# Altium footprint library new-version.PcbLib: 241 footprints (part 5 of 16)
Each footprint in its own frame and in the unit in brackets; x right, y up, seen from the top. Pads: shape width x height; smd on the part's side, far side on the other; paste and mask are expansions set on the pad; w line width, h text height; cw(c..) or ccw(c..) is an arc to the next point about the centre after c.
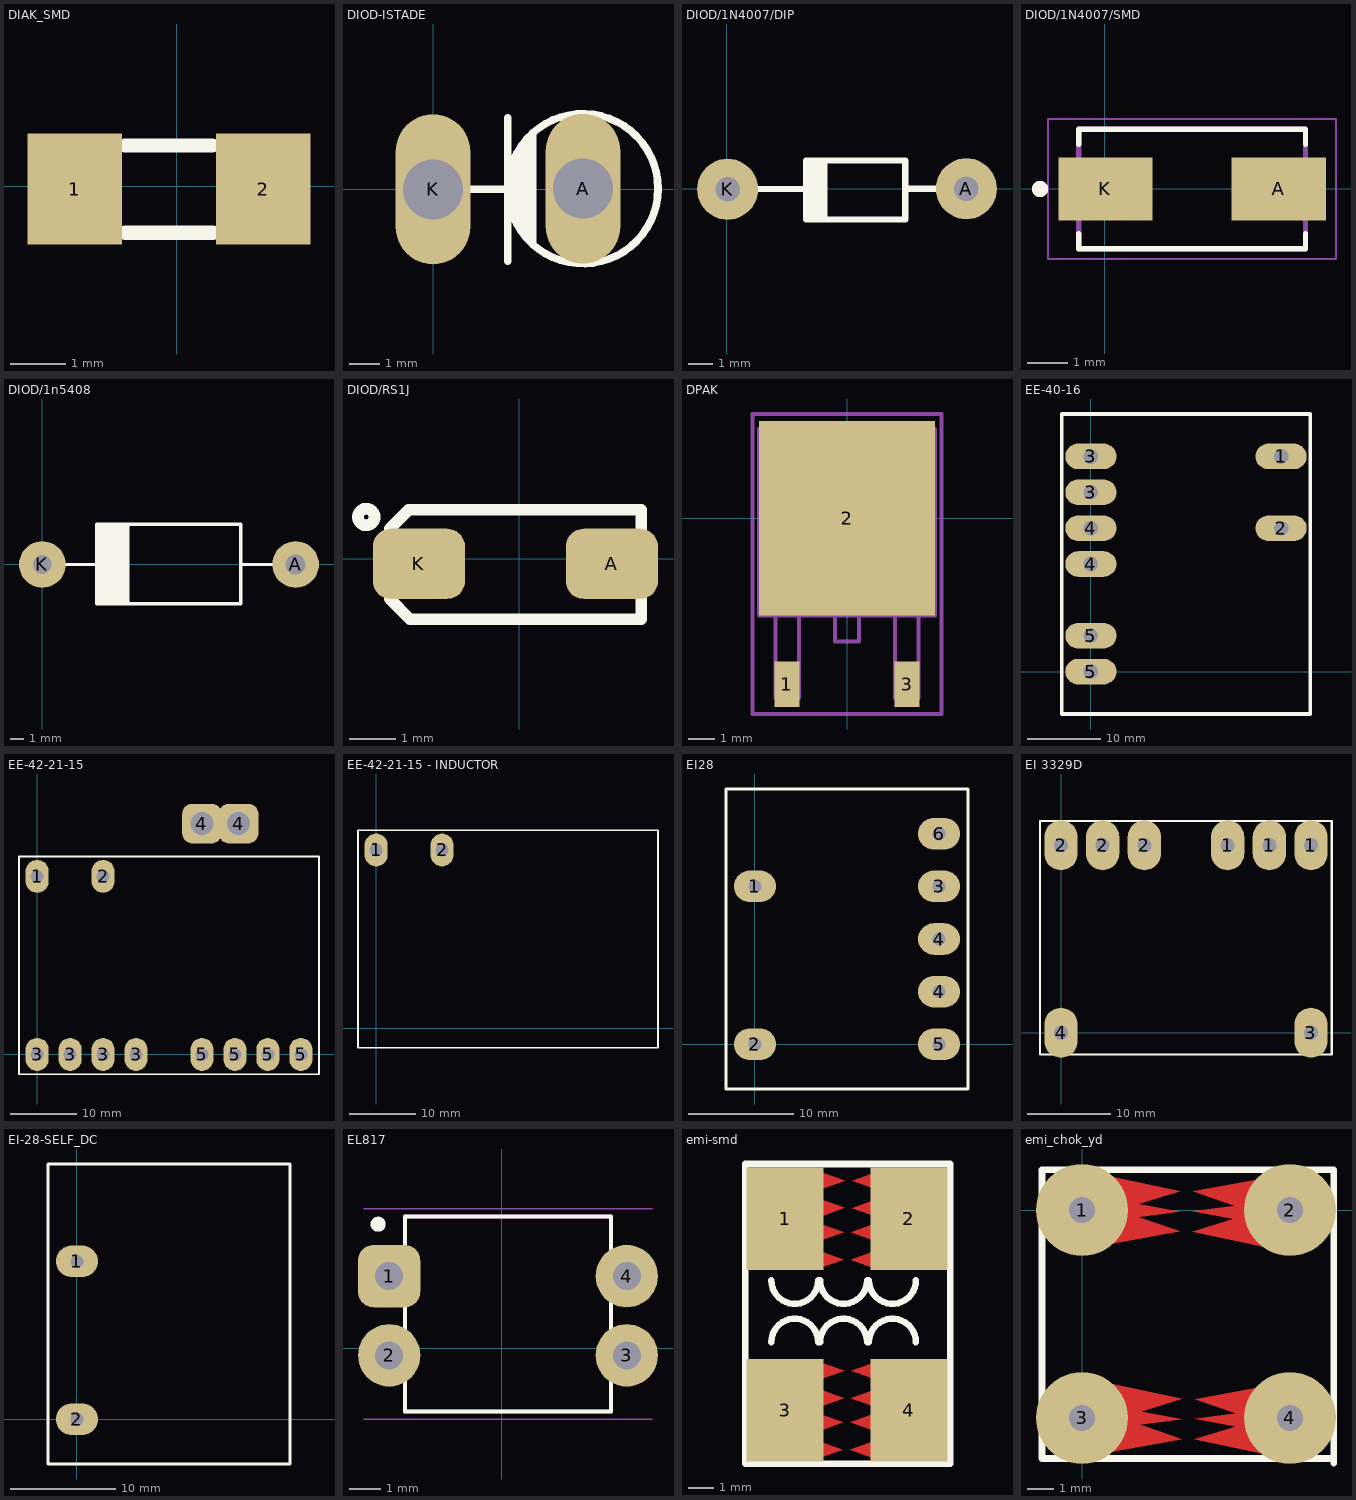
[diagram p4: the footprints below, top view; thin cyan lines are the x and y axes]

## DIAK_SMD [mm]
pads (2):
  rect 1.7x2 smd: 1(-1.843,-0.049) 2(1.557,-0.049)
Top Overlay:
  lines w0.254: -0.94,0.737 0.635,0.737 ; -0.93,-0.836 0.645,-0.836
Mechanical 13:
  region: -1.438,-0.912 -1.997,-0.912 -1.997,0.815 -1.438,0.815
  region: 1.711,-0.912 1.153,-0.912 1.153,0.815 1.711,0.815
  lines w0.152: -1.464,-0.836 1.178,-0.836 ; -1.464,0.739 1.178,0.739
3D body "MiniMelf.STEP": height 2.5, standoff 0, extent -2.79,-1.31 2.35,1.25

## DIOD-ISTADE [mm]
pads (2):
  oval 2.5x5 hole 2: A(5,0.021) K(0,0)
Top Overlay:
  circle w0.254: c5,0.021 r2.5
  lines w0.254: 0,0 2.489,0 ; 2.489,-2.388 2.489,2.388 ; 2.642,-0.381 2.642,0.635 ; 2.794,-1.016 2.794,1.092 ; 2.997,-1.372 2.997,1.448 ; 3.175,-1.626 3.175,1.651 ; 3.327,-1.829 3.327,1.88

## DIOD/1N4007/DIP [mm]
pads (2):
  round 2.5 hole 1: A(9.8,0) K(0.025,-0.021)
Top Overlay:
  rectangle: 3.234,-1.26 4.123,1.153
  lines w0.254: 0.025,-0.021 3.702,-0.002 ; 6.536,-1.26 7.298,-1.26 ; 7.298,0 10.463,0 ; 7.298,-1.26 7.298,1.153 3.234,1.153 3.234,-1.26 7.298,-1.26

## DIOD/1N4007/SMD [mm]
pads (2):
  rect 2.33x1.56 smd: A(4.299,0) K(0.019,0)
Top Overlay:
  circle w0.2: c-1.596,0 r0.1
  lines w0.127: -0.641,-1.1 -0.641,-1.475 4.959,-1.475 4.959,-1.1 ; -0.641,1.1 -0.641,1.475 4.959,1.475 4.959,1.1
Mechanical 13:
  circle w0.2: c-1.596,0 r0.1
  lines w0.127: -0.641,-1.475 -0.641,1.475 4.959,1.475 4.959,-1.475 -0.641,-1.475
Mechanical 15:
  lines w0.05: -1.396,-1.725 5.714,-1.725 5.714,1.725 -1.396,1.725 -1.396,-1.725
3D body "S1M--3DModel-STEP-56544.STEP": height 2.6, standoff -0.1, extent -0.441,-1.235 4.759,1.49

## DIOD/1n5408 [mm]
pads (2):
  round 3.5 hole 1.5: A(19,0)
  round 3.5 hole 1.4: K(0,0)
Top Overlay:
  rectangle: 4.059,-2.934 6.436,2.988
  lines w0.254: 0,0 4.064,0 4.064,3.006 14.866,3.006 ; 4.059,-2.934 4.059,0.072 ; 4.072,-2.934 14.874,-2.934 14.874,0.072 ; 6.405,-2.847 6.405,2.988 6.436,2.988 ; 14.879,3.006 14.879,0 19.021,0 19.238,-0.217

## DIOD/RS1J [mm]
pads (2):
  rrect50% 2x1.524 smd: A(2.013,-0.106) K(-2.178,-0.106)
Top Overlay:
  circle w0.254: c-3.321,0.91 r0.18
  lines w0.254: -2.813,-0.868 -2.371,-1.31 2.648,-1.31 2.648,-0.868 ; -2.813,0.656 -2.403,1.067 -1.133,1.067 2.648,1.067 2.648,0.529
3D body "rs.stp": height 2.1, standoff 0.1, extent -2.319,-1.436 2.281,1.164

## DPAK [mil]
pads (3):
  rect 37x67 smd: 1(-89,-246) 3(89,-246)
  rect 260x288 smd: 2(0,0)
Mechanical 13:
  lines w6: -18,-144 -18,-183 18,-183 18,-144 ; -130,-144 -130,132 130,132 130,-144 -130,-144 ; -106,-266 -71,-266 -71,-144 -106,-144 -106,-266 ; 71,-266 106,-266 106,-144 71,-144 71,-266
Mechanical 15:
  lines w6: -140,-290 -140,154 140,154 140,-290 -140,-290

## EE-40-16 [mm]
pads (8):
  oval 7x3.5 hole 2: 1(26,29.4) 2(26,19.6) 3(0,24.5) 3(0,29.4) 4(0,14.7) 4(0,19.6) 5(0,0) 5(0,4.9)
Top Overlay:
  lines w0.5: -4,-5.8 -4,35.2 30,35.2 30,-5.8 -4,-5.8

## EE-42-21-15 [mm]
pads (12):
  oval 3.5x5 hole 2: 1(0,27) 2(10,27) 3(0,0) 3(5,0) 3(10,0) 3(15,0) 5(25,0) 5(30,0) 5(35,0) 5(40,0)
  rrect50% 6x6 hole 3.5: 4(25,35) 4(30.556,35)
Top Overlay:
  lines w0.254: -2.75,-3 42.75,-3 42.75,30 -2.75,30 -2.75,-3

## EE-42-21-15 - INDUCTOR [mm]
pads (2):
  oval 3.5x5 hole 2: 1(0,27) 2(10,27)
Top Overlay:
  lines w0.254: -2.75,-3 42.75,-3 42.75,30 -2.75,30 -2.75,-3

## EI28 [mm]
pads (7):
  oval 4x3 hole 1.25: 1(0,15) 2(0,0) 3(17.5,15) 4(17.5,5) 4(17.5,10) 5(17.5,0) 6(17.5,20)
Top Overlay:
  lines w0.254: -2.75,-4.25 20.25,-4.25 20.25,24.25 -2.75,24.25 -2.75,-4.25

## EI 3329D [mm]
pads (8):
  oval 4x6 hole 1.7: 1(20,22.5) 1(25,22.5) 1(30,22.5) 2(0,22.5) 2(5,22.5) 2(10,22.5) 3(30,0) 4(0,0)
Top Overlay:
  lines w0.254: -2.515,-2.591 -2.515,25.409 32.485,25.409 32.485,-2.591 -2.515,-2.591

## EI-28-SELF_DC [mm]
pads (2):
  oval 4x3 hole 1.25: 1(0,15) 2(0,0)
Top Overlay:
  lines w0.254: -2.75,-4.25 -2.75,24.25 20.25,24.25 20.25,-4.25 -2.75,-4.25

## EL817 [mm]
pads (4):
  rrect50% 2x2 hole 0.9: 1(-3.604,2.306)
  round 2 hole 0.9: 2(-3.604,-0.234) 3(4.016,-0.234) 4(4.016,2.306)
Top Overlay:
  circle w0.24: c-3.959,3.972 r0.12
  lines w0.127: -3.094,-1.081 -3.094,4.216 3.506,4.216 3.506,3.266 ; -3.092,-1.081 -3.092,-2.031 3.508,-2.031 3.508,3.266
Mechanical 13:
  lines w0.127: -3.094,4.216 3.506,4.216 ; -3.092,-2.031 3.508,-2.031
Mechanical 15:
  lines w0.05: -4.424,4.466 4.836,4.466 ; -4.422,-2.281 4.838,-2.281

## emi-smd [mm]
pads (4):
  rect 3x4 smd: 1(-15.786,10.6) 2(-10.955,10.6) 3(-15.786,3.134) 4(-10.955,3.134)
Top Layer:
  region: -12.138,11.724 -12.138,12.458 -13.168,12.088
  region: -14.381,12.429 -14.381,11.754 -13.433,12.095
  region: -12.155,10.657 -12.155,11.392 -13.185,11.021
  region: -14.398,11.363 -14.398,10.687 -13.45,11.028
  region: -12.185,9.711 -12.185,10.445 -13.215,10.075
  region: -14.427,10.416 -14.427,9.741 -13.48,10.082
  region: -12.202,8.644 -12.202,9.378 -13.232,9.008
  region: -14.444,9.35 -14.444,8.674 -13.497,9.015
  region: -12.17,4.31 -12.17,5.044 -13.2,4.674
  region: -14.413,5.015 -14.413,4.34 -13.465,4.681
  region: -12.187,3.243 -12.187,3.977 -13.217,3.607
  region: -14.43,3.949 -14.43,3.273 -13.482,3.614
  region: -12.217,2.297 -12.217,3.031 -13.247,2.66
  region: -14.459,3.002 -14.459,2.327 -13.512,2.668
  region: -12.234,1.23 -12.234,1.964 -13.264,1.594
  region: -14.476,1.935 -14.476,1.26 -13.529,1.601
Top Overlay:
  lines w0.254: -16.324,5.791 cw(c-15.408,5.791) -14.492,5.791 ; -16.324,8.204 ccw(c-15.408,8.204) -14.492,8.204 ; -14.419,5.791 cw(c-13.503,5.791) -12.587,5.791 ; -14.419,8.204 ccw(c-13.503,8.204) -12.587,8.204 ; -12.514,5.791 cw(c-11.598,5.791) -10.682,5.791 ; -12.514,8.204 ccw(c-11.598,8.204) -10.682,8.204 ; -17.348,1.047 -9.333,1.047 -9.333,12.742 -17.32,12.742 -17.348,12.742 -17.348,1.047
Top Solder:
  region: -11.415,7.559
  region: -9.375,12.659 -9.416,12.7 -17.223,12.7 -17.223,9.055 -16.668,8.5 -9.58,8.5
  region: -9.389,5.192 -9.43,5.233 -17.236,5.233 -17.236,1.588 -16.688,1.039 -9.593,1.039

## emi_chok_yd [mm]
pads (4):
  round 3.5 hole 1: 1(0,0) 2(7.9,0) 3(0,-7.9) 4(7.9,-7.9)
Top Layer:
  region: 3.727,-0.814 0.031,-1.484 1.385,-0.002
  region: 3.732,0.71 1.433,0.004 -0.034,1.509
  region: 1.4,0.369 1.4,-0.372 3.734,-0.059
  region: 4.199,0.706 7.894,1.376 6.541,-0.106
  region: 4.194,-0.818 6.493,-0.112 7.959,-1.617
  region: 6.526,-0.477 6.526,0.264 4.191,-0.049
  region: 3.802,-8.703 0.106,-9.373 1.46,-7.892
  region: 3.807,-7.179 1.508,-7.885 0.041,-6.381
  region: 1.475,-7.521 1.475,-8.261 3.809,-7.948
  region: 4.273,-7.183 7.969,-6.513 6.616,-7.995
  region: 4.269,-8.707 6.568,-8.001 8.034,-9.506
  region: 6.6,-8.366 6.6,-7.625 4.266,-7.938
Top Overlay:
  lines w0.254: 9.565,-9.622 9.565,1.341 ; 9.565,1.341 9.565,1.534 -1.525,1.534 -1.525,-9.444 9.565,-9.444 9.565,1.341
Top Solder:
  rectangle: -0.133,-1.566 8.3,1.517
  rectangle: -0.058,-9.456 8.375,-6.372